# Altium schematic symbol library atmega328bisibisi.SchLib: 1 symbol
Pins are listed as number, name and electrical type; pins without a type are passive.

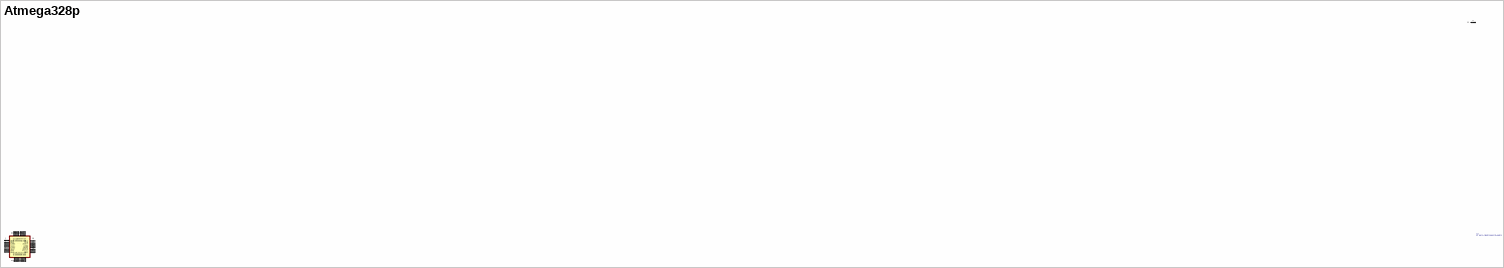
[diagram p0: symbol Atmega328p]

## Atmega328p
designator U?, comment IC MCU 8BIT 32KB FLASH 32TQFP
AVR AVR® ATmega Microcontroller IC 8-Bit 20MHz 32KB (16K x 16) FLASH 32-TQFP (7x7); Sıcaklık +: +85°C; Üretici Kodu: ATMEGA328-AUR; Sıcaklık -: -40°C
footprint TQFPkemalettin (TQFP, 32-Leads, Body 7,00x7,00mm, Pitch 0,65mm, IPC Medium Density)
pins: 0, 1 PD3, 2 PD4, 3 GND, 4 VCC, 5 GND, 6 VCC, 7 PB6, 8 PB7, 9 PD5, 10 PD6, 11 PD7, 12 PB0, 13 PB1, 14 PB2, 15 PB3, 16 PB4, 17 PB5, 18 AVCC, 19 ADC6, 20 AREF, 21 GND, 22 ADC7, 23 PC0, 24 PC1, 25 PC2, 26 PC3, 27 PC4, 28 PC5, 29 PC6, 30 PD0, 31 PD1, 32 PD2